# Altium footprint library 82103C.PcbLib: 1 footprints
Each footprint in its own frame and in the unit in brackets; x right, y up, seen from the top. Pads: shape width x height; smd on the part's side, far side on the other; paste and mask are expansions set on the pad; w line width, h text height; cw(c..) or ccw(c..) is an arc to the next point about the centre after c.
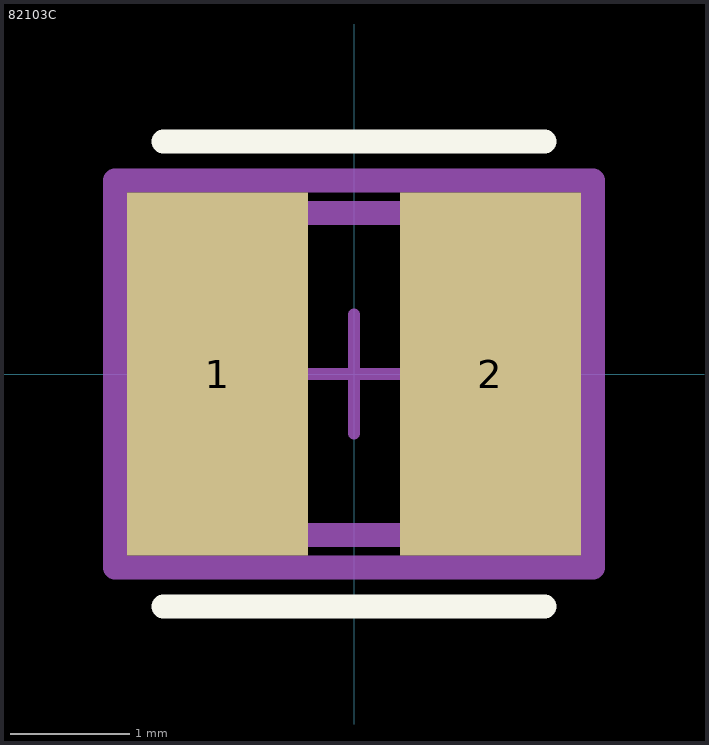
[diagram p0: the footprint, top view; thin cyan lines are the x and y axes]

## 82103C [mm]
pads (2):
  rect 1.52x3.05 smd paste+0 mask+0: 1(-1.145,0) 2(1.145,0)
Top Overlay:
  lines w0.2: -1.6,-1.95 1.6,-1.95 ; -1.6,1.95 1.6,1.95
Top Assembly:
  lines w0.2: -2.005,-1.625 -2.005,1.625 2.005,1.625 2.005,-1.625 -2.005,-1.625
Top 3D Body:
  lines w0.2: -1.75,-1.35 -1.75,1.35 1.75,1.35 1.75,-1.35 -1.75,-1.35
Top Courtyard:
  lines w0.2: -2.005,-1.625 -2.005,1.625 2.005,1.625 2.005,-1.625 -2.005,-1.625
Top Component Center:
  lines w0.1: -0.5,0 0.5,0 ; 0,-0.5 0,0.5
3D body "Ind_Murata_Power_Solutions_82103C_eec.STEP": height 0.25, standoff 0, extent -2.005,-1.625 2.005,1.625